# Altium footprint library fszhang.PcbLib: 279 footprints (part 3 of 18)
Each footprint in its own frame and in the unit in brackets; x right, y up, seen from the top. Pads: shape width x height; smd on the part's side, far side on the other; paste and mask are expansions set on the pad; w line width, h text height; cw(c..) or ccw(c..) is an arc to the next point about the centre after c.
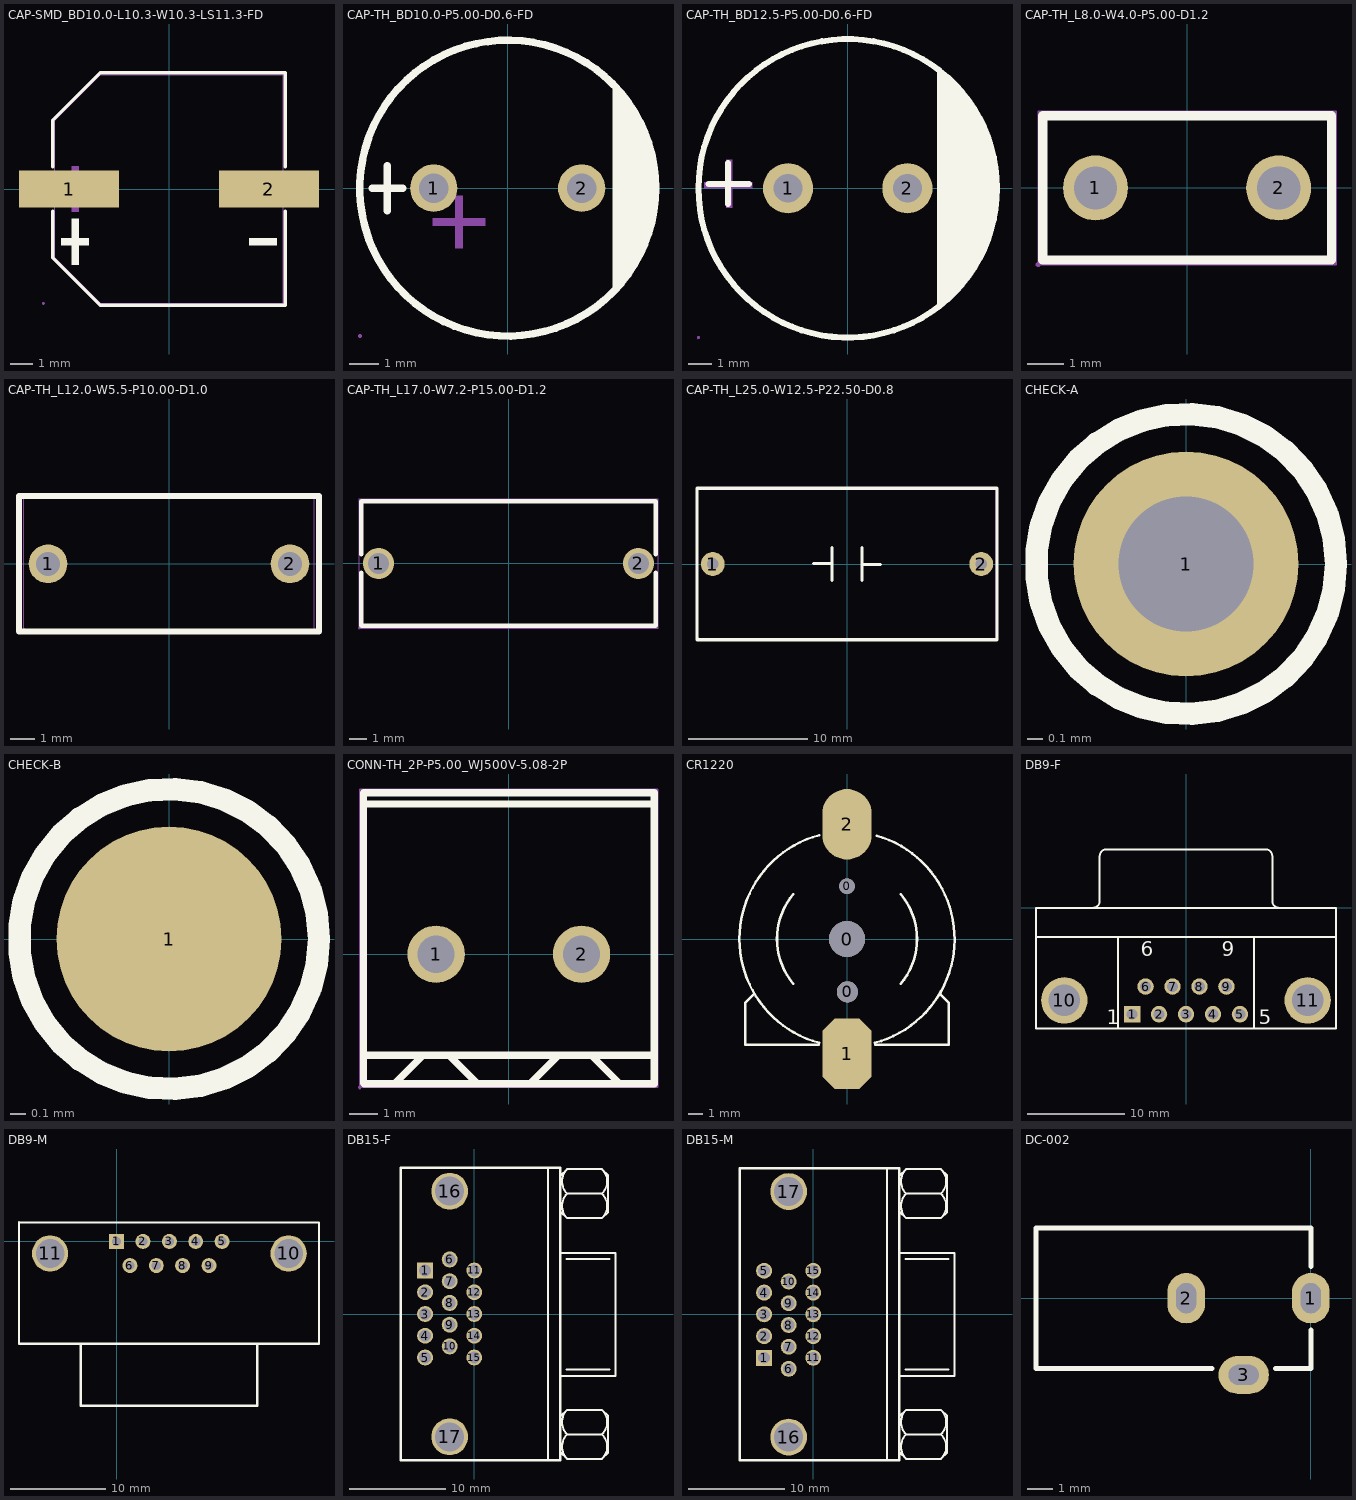
[diagram p2: the footprints below, top view; thin cyan lines are the x and y axes]

## CAP-SMD_BD10.0-L10.3-W10.3-LS11.3-FD [mm]
pads (2):
  rect 4.5x1.65 smd: 1(-4.5,0) 2(4.5,0)
Top Overlay:
  region: 4.841,-2.214 4.841,-2.523 3.605,-2.523 3.605,-2.214
  region: -4.841,-2.214 -4.841,-2.523 -3.605,-2.523 -3.605,-2.214
  region: -4.378,-1.339 -4.378,-3.399 -4.068,-3.399 -4.068,-1.339
  lines w0.152: -5.226,-1.005 -5.226,-3.09 -3.09,-5.226 5.226,-5.226 5.226,-1.005 ; -5.226,1.005 -5.226,3.09 -3.09,5.226 5.226,5.226 5.226,1.005
Mechanical 6:
  region: 4.841,0.155 4.841,-0.155 3.605,-0.155 3.605,0.155
  region: -4.841,0.155 -4.841,-0.155 -3.605,-0.155 -3.605,0.155
  region: -4.378,1.03 -4.378,-1.03 -4.068,-1.03 -4.068,1.03
Mechanical 15:
  region: -5.65,0.475 -2.3,0.475 -2.3,-0.475 -5.65,-0.475
  region: 2.3,0.475 5.65,0.475 5.65,-0.475 2.3,-0.475
  region: -5.59,-5.15 -5.59,-5.125 -5.625,-5.091 -5.675,-5.091 -5.71,-5.125 -5.71,-5.15 -5.71,-5.175 -5.675,-5.209 -5.625,-5.209 -5.59,-5.175 -5.59,-5.15
  lines w0.051: -5.15,-3.09 -5.15,3.09 -3.09,5.15 5.15,5.15 5.15,-5.15 -3.09,-5.15 -5.15,-3.09

## CAP-TH_BD10.0-P5.00-D0.6-FD [mm]
pads (2):
  round 1.6 hole 1 paste+0 mask+0.05: 1(-2.5,0) 2(2.5,0)
Top Overlay:
  circle w0.254: c0,0 r5
  region: 3.556,3.556 3.556,-3.556 4.318,-2.54 4.826,-1.016 5.08,0.508 4.826,1.524
  lines w0.254: -4.572,0 -3.556,0 ; -4.064,-0.762 -4.064,0.762
Mechanical 6:
  region: -2.54,-1.016 -0.762,-1.016 -0.762,-1.27 -2.54,-1.27
  region: -1.778,-0.762 -1.778,-2.032 -1.524,-2.032 -1.524,-0.254 -1.778,-0.254
Mechanical 15:
  region: -2.2,0 -2.201,0.059 -2.248,0.167 -2.332,0.25 -2.441,0.294 -2.559,0.294 -2.668,0.25 -2.752,0.167 -2.799,0.059 -2.8,0 -2.799,-0.059 -2.752,-0.167 -2.668,-0.25 -2.559,-0.294 -2.441,-0.294 -2.332,-0.25 -2.248,-0.167 -2.201,-0.059 -2.2,0
  region: 2.8,0 2.799,0.059 2.752,0.167 2.668,0.25 2.559,0.294 2.441,0.294 2.332,0.25 2.248,0.167 2.201,0.059 2.2,0 2.201,-0.059 2.248,-0.167 2.332,-0.25 2.441,-0.294 2.559,-0.294 2.668,-0.25 2.752,-0.167 2.799,-0.059 2.8,0
  region: -4.94,-5 -4.94,-4.975 -4.975,-4.94 -5.025,-4.94 -5.06,-4.975 -5.06,-5 -5.06,-5.025 -5.025,-5.06 -4.975,-5.06 -4.94,-5.025 -4.94,-5
  lines w0.051: -5,0 ccw(c0,0) 5,0 ccw(c0,0) -5,0

## CAP-TH_BD12.5-P5.00-D0.6-FD [mm]
pads (2):
  round 2.1 hole 1.2 paste+0 mask+0.05: 1(-2.5,0) 2(2.5,0)
Top Overlay:
  circle w0.254: c0,0 r6.25
  region: 3.75,5 3.75,-5 4.482,-4.268 4.692,-4.058 5.068,-3.6 5.397,-3.107 5.677,-2.584 5.904,-2.036 6.076,-1.468 6.192,-0.887 6.25,-0.297 6.25,0 6.25,0.297 6.192,0.887 6.076,1.468 5.904,2.036 5.677,2.584 5.397,3.107 5.068,3.6 4.692,4.058 4.482,4.268
  lines w0.254: -5.817,0.178 -4.14,0.178 ; -5.004,-0.66 -5.004,1.067
Mechanical 6:
  region: -5.092,-0.811 -5.092,1.189 -4.842,1.189 -4.842,-0.811
  region: -6,0.25 -4,0.25 -4,0 -6,0
Mechanical 15:
  region: 2.8,0 2.799,0.059 2.752,0.167 2.668,0.25 2.559,0.294 2.441,0.294 2.332,0.25 2.248,0.167 2.201,0.059 2.2,0 2.201,-0.059 2.248,-0.167 2.332,-0.25 2.441,-0.294 2.559,-0.294 2.668,-0.25 2.752,-0.167 2.799,-0.059 2.8,0
  region: -2.2,0 -2.201,0.059 -2.248,0.167 -2.332,0.25 -2.441,0.294 -2.559,0.294 -2.668,0.25 -2.752,0.167 -2.799,0.059 -2.8,0 -2.799,-0.059 -2.752,-0.167 -2.668,-0.25 -2.559,-0.294 -2.441,-0.294 -2.332,-0.25 -2.248,-0.167 -2.201,-0.059 -2.2,0
  region: -6.19,-6.25 -6.19,-6.225 -6.225,-6.19 -6.275,-6.19 -6.31,-6.225 -6.31,-6.25 -6.31,-6.275 -6.275,-6.31 -6.225,-6.31 -6.19,-6.275 -6.19,-6.25
  lines w0.051: -6.25,0 ccw(c0,0) 6.25,0 ccw(c0,0) -6.25,0

## CAP-TH_L8.0-W4.0-P5.00-D1.2 [mm]
pads (2):
  round 1.801 hole 1.199 mask+0.051: 1(-2.54,0) 2(2.54,0)
Top Overlay:
  lines w0.254: -4,-1.999 4,-1.999 4,1.999 -4,1.999 -4,-1.999
Mechanical 15:
  region: -2.04,0 -2.04,0.1 -2.116,0.283 -2.257,0.424 -2.44,0.5 -2.64,0.5 -2.823,0.424 -2.964,0.283 -3.04,0.1 -3.04,0 -3.04,-0.1 -2.964,-0.283 -2.823,-0.424 -2.64,-0.5 -2.44,-0.5 -2.257,-0.424 -2.116,-0.283 -2.04,-0.1 -2.04,0
  region: 3.04,0 3.04,0.1 2.964,0.283 2.823,0.424 2.64,0.5 2.44,0.5 2.257,0.424 2.116,0.283 2.04,0.1 2.04,0 2.04,-0.1 2.116,-0.283 2.257,-0.424 2.44,-0.5 2.64,-0.5 2.823,-0.424 2.964,-0.283 3.04,-0.1 3.04,0
  region: -4.067,-2.126 -4.067,-2.101 -4.102,-2.065 -4.153,-2.065 -4.188,-2.101 -4.188,-2.126 -4.188,-2.151 -4.153,-2.187 -4.102,-2.187 -4.067,-2.151 -4.067,-2.126
  lines w0.051: -4.127,-2.126 4.127,-2.126 4.127,2.126 -4.127,2.126 -4.127,-2.126

## CAP-TH_L12.0-W5.5-P10.00-D1.0 [mm]
pads (2):
  round 1.6 hole 1: 1(-5,0) 2(5,0)
Top Overlay:
  lines w0.254: -6.2,-2.8 -6.2,2.8 6.2,2.8 6.2,-2.8 -6.2,-2.8
Mechanical 15:
  region: -5.94,-2.75 -5.94,-2.725 -5.975,-2.69 -6.025,-2.69 -6.06,-2.725 -6.06,-2.75 -6.06,-2.775 -6.025,-2.81 -5.975,-2.81 -5.94,-2.775 -5.94,-2.75
  region: 5.3,0 5.3,0.06 5.254,0.17 5.17,0.254 5.06,0.3 4.94,0.3 4.83,0.254 4.746,0.17 4.7,0.06 4.7,0 4.7,-0.06 4.746,-0.17 4.83,-0.254 4.94,-0.3 5.06,-0.3 5.17,-0.254 5.254,-0.17 5.3,-0.06 5.3,0
  region: -4.7,0 -4.7,0.06 -4.746,0.17 -4.83,0.254 -4.94,0.3 -5.06,0.3 -5.17,0.254 -5.254,0.17 -5.3,0.06 -5.3,0 -5.3,-0.06 -5.254,-0.17 -5.17,-0.254 -5.06,-0.3 -4.94,-0.3 -4.83,-0.254 -4.746,-0.17 -4.7,-0.06 -4.7,0
  lines w0.051: -6,-2.75 -6,2.75 6,2.75 6,-2.75 -6,-2.75

## CAP-TH_L17.0-W7.2-P15.00-D1.2 [mm]
pads (2):
  round 1.801 hole 1.199 mask+0.051: 1(-7.501,0) 2(7.501,0)
Top Overlay:
  lines w0.254: -8.499,-0.528 -8.499,-3.599 8.501,-3.599 8.501,-0.526 ; -8.499,0.528 -8.499,3.599 8.501,3.599 8.501,0.526
Mechanical 15:
  region: -8.565,-3.726 -8.565,-3.701 -8.601,-3.665 -8.651,-3.665 -8.687,-3.701 -8.687,-3.726 -8.687,-3.751 -8.651,-3.787 -8.601,-3.787 -8.565,-3.751 -8.565,-3.726
  region: -7,0 -7,0.1 -7.076,0.283 -7.217,0.424 -7.401,0.5 -7.6,0.5 -7.784,0.424 -7.925,0.283 -8.001,0.1 -8.001,0 -8.001,-0.1 -7.925,-0.283 -7.784,-0.424 -7.6,-0.5 -7.401,-0.5 -7.217,-0.424 -7.076,-0.283 -7,-0.1 -7,0
  region: 8.001,0 8.001,0.1 7.925,0.283 7.784,0.424 7.6,0.5 7.401,0.5 7.217,0.424 7.076,0.283 7,0.1 7,0 7,-0.1 7.076,-0.283 7.217,-0.424 7.401,-0.5 7.6,-0.5 7.784,-0.424 7.925,-0.283 8.001,-0.1 8.001,0
  lines w0.051: -8.626,-3.726 -8.626,3.726 8.628,3.726 8.628,-3.726 -8.626,-3.726

## CAP-TH_L25.0-W12.5-P22.50-D0.8 [mm]
pads (2):
  round 2 hole 1 paste+0 mask+0.05: 1(-11.25,0) 2(11.25,0)
Top Overlay:
  lines w0.254: -2.794,0.047 -1.27,0.047 ; -1.27,-1.397 -1.27,1.397 ; 1.27,-1.397 1.27,1.397 ; 1.27,-0.047 2.794,-0.047 ; -12.573,-6.35 -12.573,6.35 12.573,6.35 12.573,-6.35 -12.573,-6.35
Mechanical 15:
  region: -10.85,0 -10.85,0.08 -10.911,0.227 -11.024,0.339 -11.17,0.4 -11.33,0.4 -11.477,0.339 -11.589,0.227 -11.65,0.08 -11.65,0 -11.65,-0.08 -11.589,-0.227 -11.477,-0.339 -11.33,-0.4 -11.17,-0.4 -11.024,-0.339 -10.911,-0.227 -10.85,-0.08 -10.85,0
  region: 11.65,0 11.65,0.08 11.589,0.227 11.477,0.339 11.33,0.4 11.17,0.4 11.024,0.339 10.911,0.227 10.85,0.08 10.85,0 10.85,-0.08 10.911,-0.227 11.024,-0.339 11.17,-0.4 11.33,-0.4 11.477,-0.339 11.589,-0.227 11.65,-0.08 11.65,0
  region: -12.44,-6.25 -12.44,-6.225 -12.475,-6.19 -12.525,-6.19 -12.56,-6.225 -12.56,-6.25 -12.56,-6.275 -12.525,-6.31 -12.475,-6.31 -12.44,-6.275 -12.44,-6.25
  lines w0.051: -12.5,-6.25 12.5,-6.25 12.5,6.25 -12.5,6.25 -12.5,-6.25

## CHECK-A [mm] "Connector; Plug"
height 1.45
pads (1):
  round 1.5 hole 0.9: 1(0,0)
Top Overlay:
  circle w0.15: c0,0 r1

## CHECK-B [mm] "Connector; Plug"
height 1.45
pads (1):
  round 1.5 smd: 1(0,0)
Top Overlay:
  circle w0.15: c0,0 r1

## CONN-TH_2P-P5.00_WJ500V-5.08-2P [mm]
pads (2):
  round 2 hole 1.3 paste+0 mask+0.051: 1(-2.54,0) 2(2.54,0)
Top Overlay:
  lines w0.254: -5.08,-4.52 -5.08,5.64 ; -5.065,5.243 5.08,5.243 ; -5.054,-4.522 5.08,-4.522 5.08,5.638 -5.054,5.638 ; -5.036,-3.531 5.08,-3.531 ; -3.97,-4.5 -3.01,-3.54 ; -2.08,-3.54 -1.12,-4.5 ; 0.75,-4.518 1.71,-3.558 ; 2.9,-3.558 3.86,-4.518
Mechanical 15:
  region: -1.99,0 -1.99,0.109 -2.074,0.312 -2.228,0.466 -2.431,0.55 -2.649,0.55 -2.852,0.466 -3.006,0.312 -3.09,0.109 -3.09,0 -3.09,-0.109 -3.006,-0.312 -2.852,-0.466 -2.649,-0.55 -2.431,-0.55 -2.228,-0.466 -2.074,-0.312 -1.99,-0.109 -1.99,0
  region: 3.09,0 3.09,0.109 3.006,0.312 2.852,0.466 2.649,0.55 2.431,0.55 2.228,0.466 2.074,0.312 1.99,0.109 1.99,0 1.99,-0.109 2.074,-0.312 2.228,-0.466 2.431,-0.55 2.649,-0.55 2.852,-0.466 3.006,-0.312 3.09,-0.109 3.09,0
  region: -5.147,-4.649 -5.147,-4.625 -5.182,-4.59 -5.232,-4.59 -5.267,-4.625 -5.267,-4.649 -5.267,-4.674 -5.232,-4.709 -5.182,-4.709 -5.147,-4.674 -5.147,-4.649
  lines w0.051: -5.207,-4.649 -5.207,5.767 5.207,5.767 5.207,-4.649 -5.207,-4.649

## CR1220 [mm] "钮扣电池"
height 3
pads (5):
  round 2.54 hole 2.54: 0(0,0)
  round 1.1 hole 1.1: 0(0,3.75)
  round 1.5 hole 1.5: 0(0.025,-3.75)
  oct 3.5x5 smd: 1(0,-8.128)
  oval 3.5x5 smd: 2(0,8.128)
Top Overlay:
  lines w0.178: -6.6,-3.9 -7.2,-4.5 -7.2,-7.5 -2,-7.5 ; -3.815,-3.169 cw(c0,0) -3.812,3.172 ; -1.963,-7.363 cw(c0,0) -7.62,0 cw(c0,0) -1.963,7.363 ; 1.963,-7.363 ccw(c0,0) 2.093,7.327 ; 2,-7.5 7.2,-7.5 7.2,-4.5 6.625,-3.925 ; 3.81,-3.175 ccw(c0,0) 3.812,3.172

## DB9-F [mm] "DB9母座"
height 12.75
pads (11):
  rect 1.69x1.69 hole 1.09: 1(-5.54,-10.92)
  round 1.69 hole 1.09: 2(-2.77,-10.92) 3(0,-10.92) 4(2.77,-10.92) 5(5.54,-10.92) 6(-4.155,-8.08) 7(-1.385,-8.08) 8(1.385,-8.08) 9(4.155,-8.08)
  round 4.76 hole 3.26: 10(-12.495,-9.5) 11(12.495,-9.5)
Top Overlay:
  lines w0.2: -15.4,-3 15.4,-3 ; -9.56,0.005 ccw(c-9.56,0.7) -8.865,0.7 -8.865,5.3 ; -8.86,5.305 cw(c-8.165,5.305) -8.165,6 8.165,6 cw(c8.165,5.305) 8.86,5.305 ; -7,-12.4 -7,-3 ; 7,-12.4 7,-3 ; 8.865,5.3 8.865,0.7 ccw(c9.56,0.7) 9.56,0.005 ; -15.4,-12.4 15.4,-12.4 15.4,0 -15.4,0 -15.4,-12.4
  text "6" at -4.655,-4.975 h1.5
  text "9" at 3.655,-4.975 h1.5
  text "5" at 7.493,-11.938 h1.5
  text "1" at -8.128,-11.938 h1.5

## DB9-M [mil] "DB9公座"
height 393.7
pads (11):
  rect 62x62 hole 38: 1(0,0)
  round 62 hole 38: 2(109,0) 3(218,0) 4(327,0) 5(436,0) 6(55,-100) 7(164,-100) 8(273,-100) 9(382,-100)
  round 150 hole 118.11: 10(711,-50) 11(-275,-50)
Top Overlay:
  lines w8: -403.54,78.74 836.61,78.74 836.61,-423.23
  lines w10: -403.54,78.74 -403.54,-423.23 836.61,-423.23 ; -147.64,-425 -147.64,-679.13 580.71,-679.13 580.71,-425
3D body: height 314.96, standoff 0, extent -145,-680 580,-425
3D body: height 393.7, standoff 0, extent -405,-425 835,75

## DB15-F [mil] "VGA母"
height 393.7
pads (17):
  rect 65x65 hole 48: 1(-200,177.16)
  round 65 hole 48: 2(-200,88.58) 3(-200,0) 4(-200,-88.58) 5(-200,-177.16) 6(-100,222.17) 7(-100,133.58) 8(-100,45) 9(-100,-43.58) 10(-100,-132.16) 11(0,177.16) 12(0,88.58) 13(0,0) 14(0,-88.58) 15(0,-177.16)
  round 150 hole 118.11: 16(-100,500) 17(-100,-500)
Top Overlay:
  lines w8: 300,-595 300,596.25 ; 350,-251.67 575,-251.67 575,248.33 350,248.33 ; 353.33,-565 378.33,-590 520,-590 545,-565 545,-415 520,-390 378.33,-390 353.33,-415 ; 353.33,415 378.33,390 520,390 545,415 545,565 520,590 378.33,590 353.33,565 ; 375,-226.67 550,-226.67 ; 375,223.33 550,223.33 ; 378.25,-590.09 cw(c428.33,-540) 378.25,-489.91 ; 378.25,-490.09 cw(c428.33,-440) 378.25,-389.91 ; 378.25,389.91 cw(c428.33,440) 378.25,490.09 ; 378.25,489.91 cw(c428.33,540) 378.25,590.09 ; 378.33,-490 520,-490 ; 378.33,490 520,490 ; 520.09,-590.09 ccw(c470,-540) 520.09,-489.91 ; 520.09,-490.09 ccw(c470,-440) 520.09,-389.91 ; 520.09,389.91 ccw(c470,440) 520.09,490.09 ; 520.09,489.91 ccw(c470,540) 520.09,590.09
  lines w10: -300,-595 -300,595 350,595 350,-595 -300,-595

## DB15-M [mil] "VGA公"
height 393.7
pads (17):
  rect 65x65 hole 48: 1(-200,-177.16)
  round 65 hole 48: 2(-200,-88.58) 3(-200,0) 4(-200,88.58) 5(-200,177.16) 6(-100,-222) 7(-100,-132.16) 8(-100,-43.58) 9(-100,45) 10(-100,133.58) 11(0,-177.16) 12(0,-88.58) 13(0,0) 14(0,88.58) 15(0,177.16)
  round 150 hole 118.11: 16(-100,-500) 17(-100,500)
Top Overlay:
  lines w8: 300,-596.25 300,595 ; 350,-250.42 575,-250.42 575,249.58 350,249.58 ; 353.33,-563.75 378.33,-588.75 520,-588.75 545,-563.75 545,-413.75 520,-388.75 378.33,-388.75 353.33,-413.75 ; 353.33,416.25 378.33,391.25 520,391.25 545,416.25 545,566.25 520,591.25 378.33,591.25 353.33,566.25 ; 375,-225.42 550,-225.42 ; 375,224.58 550,224.58 ; 378.25,-588.84 cw(c428.33,-538.75) 378.25,-488.66 ; 378.25,-488.84 cw(c428.33,-438.75) 378.25,-388.66 ; 378.25,391.16 cw(c428.33,441.25) 378.25,491.34 ; 378.25,491.16 cw(c428.33,541.25) 378.25,591.34 ; 378.33,-488.75 520,-488.75 ; 378.33,491.25 520,491.25 ; 520.09,-588.84 ccw(c470,-538.75) 520.09,-488.66 ; 520.09,-488.84 ccw(c470,-438.75) 520.09,-388.66 ; 520.09,391.16 ccw(c470,441.25) 520.09,491.34 ; 520.09,491.16 ccw(c470,541.25) 520.09,591.34
  lines w10: -300,-595 -300,595 350,595 350,-595 -300,-595

## DC-002 [mm] "DC母座3.5mm"
height 7.2
pads (3):
  oval 1.5x2 hole 0.8 slot 1.2 at 90 deg: 1(0,0) 2(-4.953,0)
  oval 2x1.5 hole 0.8 slot 1.2 at 0 deg: 3(-2.667,-3.048)
Top Overlay:
  lines w0.2: -3.937,-2.794 -10.922,-2.794 -10.922,2.794 0,2.794 0,1.27 ; -1.397,-2.794 0,-2.794 0,-1.27
3D body: height 7.2, standoff 0, extent -10.922,-2.794 0,2.794